# EAGLE library part DP83848J (library farnell-parts)
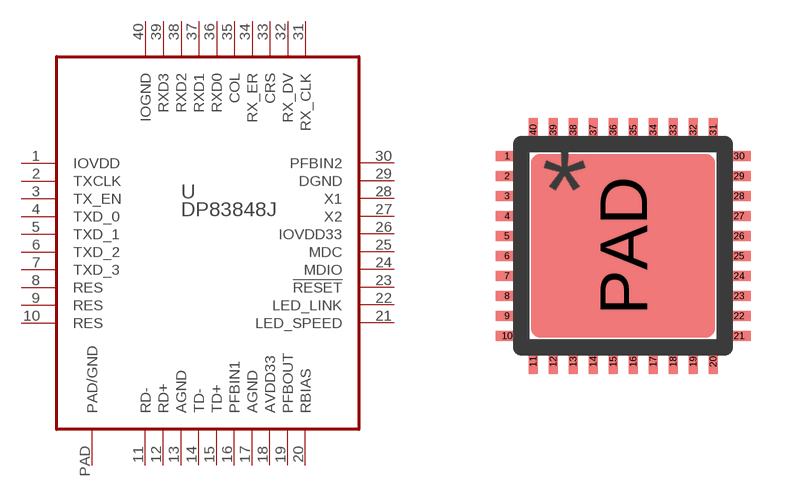
[diagram p9: symbol with the pads of WQFN40; footprint WQFN40]

Designator prefix U

## DP83848J (OC_ONECALL: 2335584)  [WQFN40]
1  IOVDD  pwr
2  TXCLK
3  TX_EN
4  TXD_0
5  TXD_1
6  TXD_2
7  TXD_3
8  RES  nc
9  RES  nc
10  RES  nc
11  RD-
12  RD+
13  AGND  pwr
14  TD-
15  TD+
16  PFBIN1
17  AGND  pwr
18  AVDD33  pwr
19  PFBOUT
20  RBIAS
21  LED_SPEED
22  LED_LINK
23  !RESET
24  MDIO
25  MDC
26  IOVDD33  pwr
27  X2
28  X1
29  DGND  pwr
30  PFBIN2
31  RX_CLK
32  RX_DV
33  CRS
34  RX_ER
35  COL
36  RXD0
37  RXD1
38  RXD2
39  RXD3
40  IOGND  pwr
PAD  PAD/GND  nc

## Footprint WQFN40 (pad centres in mm)
smd 0.6 x 0.25: 1 -2.9,2.25; 2 -2.9,1.75; 3 -2.9,1.25; 4 -2.9,0.75; 5 -2.9,0.25; 6 -2.9,-0.25; 7 -2.9,-0.75; 8 -2.9,-1.25; 9 -2.9,-1.75; 10 -2.9,-2.25; 21 2.9,-2.25; 22 2.9,-1.75; 23 2.9,-1.25; 24 2.9,-0.75; 25 2.9,-0.25; 26 2.9,0.25; 27 2.9,0.75; 28 2.9,1.25; 29 2.9,1.75; 30 2.9,2.25
smd 0.25 x 0.6: 11 -2.25,-2.9; 12 -1.75,-2.9; 13 -1.25,-2.9; 14 -0.75,-2.9; 15 -0.25,-2.9; 16 0.25,-2.9; 17 0.75,-2.9; 18 1.25,-2.9; 19 1.75,-2.9; 20 2.25,-2.9; 31 2.25,2.9; 32 1.75,2.9; 33 1.25,2.9; 34 0.75,2.9; 35 0.25,2.9; 36 -0.25,2.9; 37 -0.75,2.9; 38 -1.25,2.9; 39 -1.75,2.9; 40 -2.25,2.9
smd 4.6 x 4.6: PAD 0,0